# Altium footprint library 2.贴片器件封装.PcbLib: 28 footprints (part 1 of 2)
Each footprint in its own frame and in the unit in brackets; x right, y up, seen from the top. Pads: shape width x height; smd on the part's side, far side on the other; paste and mask are expansions set on the pad; w line width, h text height; cw(c..) or ccw(c..) is an arc to the next point about the centre after c.
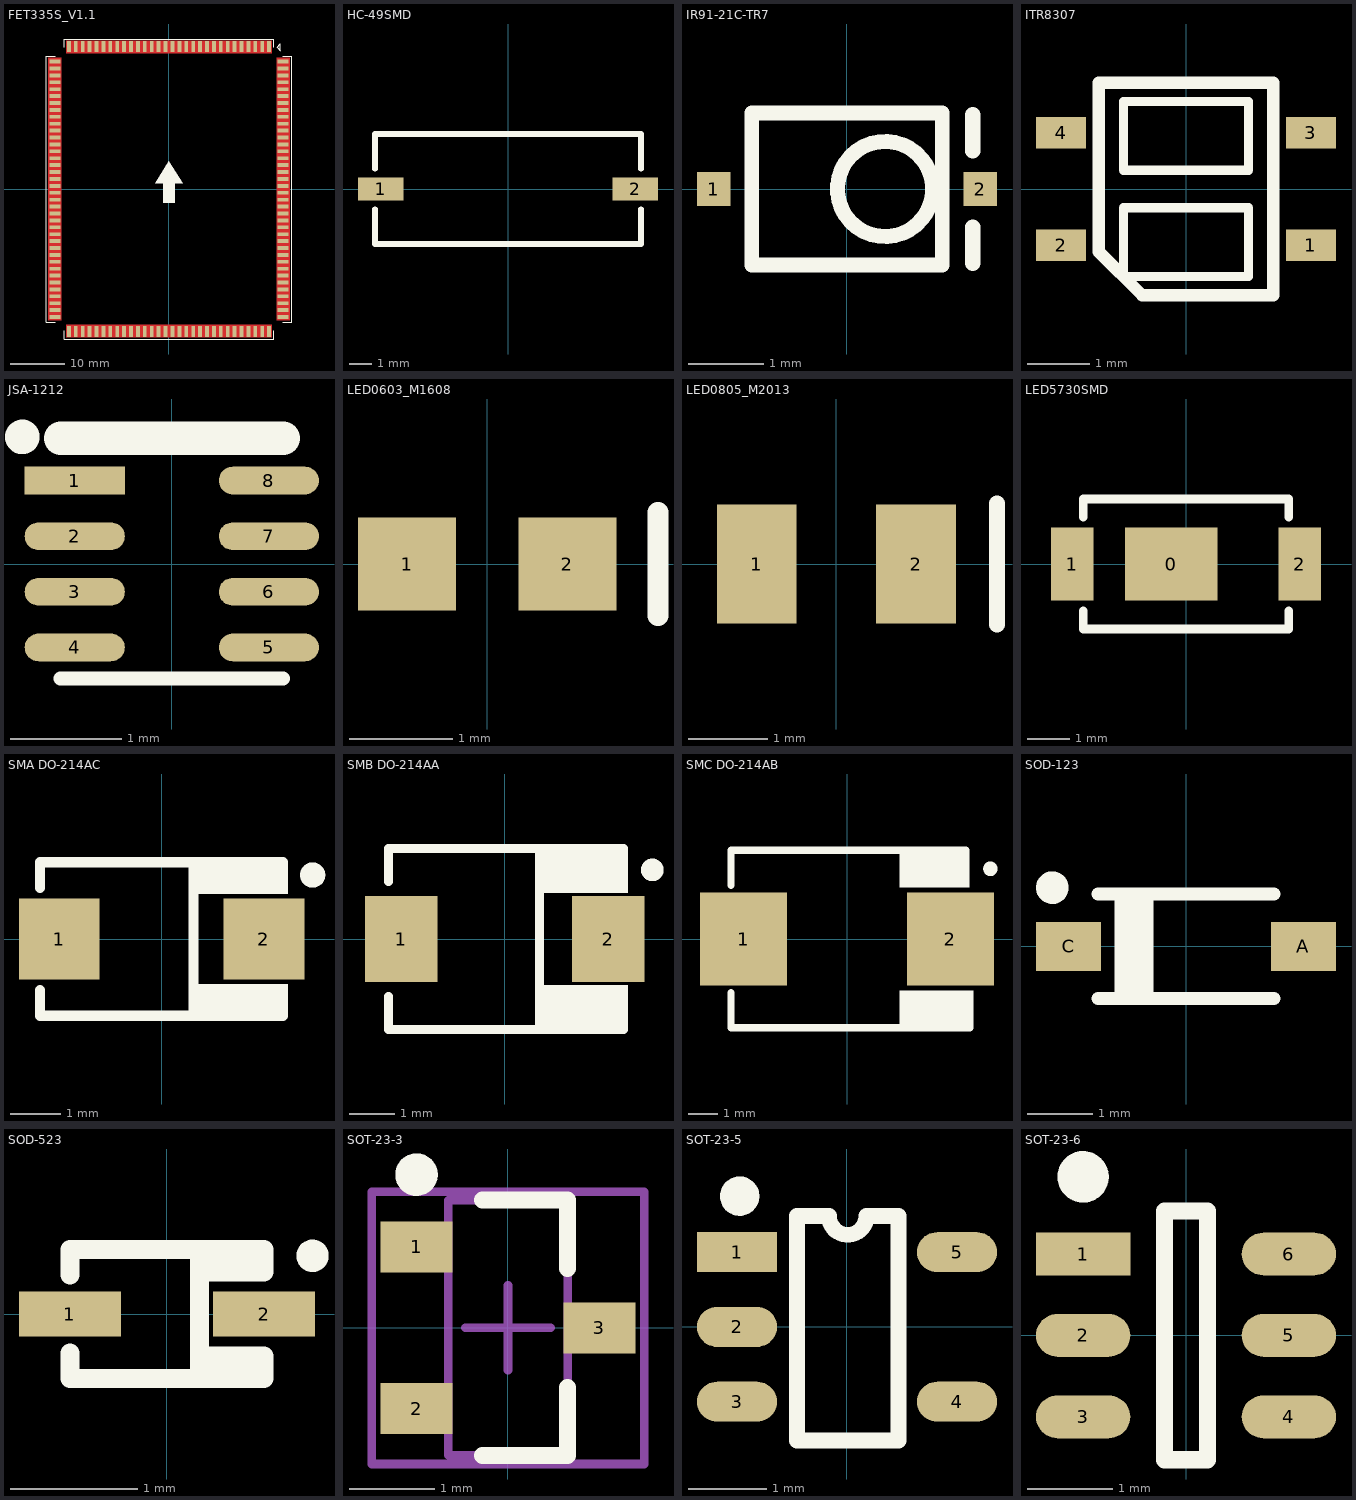
[diagram p0: the footprints below, top view; thin cyan lines are the x and y axes]

## FET335S_V1.1 [mm]
pads (136):
  rect 0.7x2 smd: 1(18.415,26.2) 2(17.145,26.2) 3(15.875,26.2) 4(14.605,26.2) 5(13.335,26.2) 6(12.065,26.2) 7(10.795,26.2) 8(9.525,26.2) 9(8.255,26.2) 10(6.985,26.2) 11(5.715,26.2) 12(4.445,26.2) 13(3.175,26.2) 14(1.905,26.2) 15(0.635,26.2) 16(-0.635,26.2) 17(-1.905,26.2) 18(-3.175,26.2) 19(-4.445,26.2) 20(-5.715,26.2) 21(-6.985,26.2) 22(-8.255,26.2) 23(-9.525,26.2) 24(-10.795,26.2) 25(-12.065,26.2) 26(-13.335,26.2) 27(-14.605,26.2) 28(-15.875,26.2) 29(-17.145,26.2) 30(-18.415,26.2) 69(-18.415,-26.2) 70(-17.145,-26.2) 71(-15.875,-26.2) 72(-14.605,-26.2) 73(-13.335,-26.2) 74(-12.065,-26.2) 75(-10.795,-26.2) 76(-9.525,-26.2) 77(-8.255,-26.2) 78(-6.985,-26.2) 79(-5.715,-26.2) 80(-4.445,-26.2) 81(-3.175,-26.2) 82(-1.905,-26.2) 83(-0.635,-26.2) 84(0.635,-26.2) 85(1.905,-26.2) 86(3.175,-26.2) 87(4.445,-26.2) 88(5.715,-26.2) 89(6.985,-26.2) 90(8.255,-26.2) 91(9.525,-26.2) 92(10.795,-26.2) 93(12.065,-26.2) 94(13.335,-26.2) 95(14.605,-26.2) 96(15.875,-26.2) 97(17.145,-26.2) 98(18.415,-26.2)
  rect 2x0.7 smd: 31(-21,23.44) 32(-21,22.17) 33(-21,20.9) 34(-21,19.63) 35(-21,18.36) 36(-21,17.09) 37(-21,15.82) 38(-21,14.55) 39(-21,13.28) 40(-21,12.01) 41(-21,10.74) 42(-21,9.47) 43(-21,8.2) 44(-21,6.93) 45(-21,5.66) 46(-21,4.39) 47(-21,3.12) 48(-21,1.85) 49(-21,0.58) 50(-21,-0.69) 51(-21,-1.96) 52(-21,-3.23) 53(-21,-4.5) 54(-21,-5.77) 55(-21,-7.04) 56(-21,-8.31) 57(-21,-9.58) 58(-21,-10.85) 59(-21,-12.12) 60(-21,-13.39) 61(-21,-14.66) 62(-21,-15.93) 63(-21,-17.2) 64(-21,-18.47) 65(-21,-19.74) 66(-21,-21.01) 67(-21,-22.28) 68(-21,-23.55) 99(21,-23.55) 100(21,-22.28) 101(21,-21.01) 102(21,-19.74) 103(21,-18.47) 104(21,-17.2) 105(21,-15.93) 106(21,-14.66) 107(21,-13.39) 108(21,-12.12) 109(21,-10.85) 110(21,-9.58) 111(21,-8.31) 112(21,-7.04) 113(21,-5.77) 114(21,-4.5) 115(21,-3.23) 116(21,-1.96) 117(21,-0.69) 118(21,0.58) 119(21,1.85) 120(21,3.12) 121(21,4.39) 122(21,5.66) 123(21,6.93) 124(21,8.2) 125(21,9.47) 126(21,10.74) 127(21,12.01) 128(21,13.28) 129(21,14.55) 130(21,15.82) 131(21,17.09) 132(21,18.36) 133(21,19.63) 134(21,20.9) 135(21,22.17) 136(21,23.44)
Top Layer:
  pour cut-out: -18.923,27.305 -18.923,25.019 18.923,25.019 18.923,27.305
  pour cut-out: -18.923,-25.019 -18.923,-27.305 18.923,-27.305 18.923,-25.019
  pour cut-out: 22.225,24.13 19.812,24.13 19.812,-24.13 22.225,-24.13
  pour cut-out: -22.225,24.13 -19.812,24.13 -19.812,-24.13 -22.225,-24.13
Top Overlay:
  region: -1.016,1.016 -1.016,-2.54 1.016,-2.54 1.016,1.016
  region: 0,5.08 -2.54,1.016 2.54,1.016
  lines w0.2: -20.933,-24.5 -22.6,-24.5 -22.6,24.4 -20.933,24.4 ; -19.3,-26.071 -19.3,-27.6 19.3,-27.6 19.3,-26.071 ; -19.3,26.071 -19.3,27.6 19.3,27.6 19.3,26.071 ; 19.9,26.071 20.5,25.471 20.5,26.7 19.9,26.1 ; 20.933,-24.5 22.6,-24.5 22.6,24.4 20.933,24.4

## HC-49SMD [mm]
pads (2):
  rect 2x1 smd: 1(-5.588,0) 2(5.588,0)
Top Overlay:
  lines w0.254: -5.842,-0.889 -5.842,-2.413 5.842,-2.413 5.842,-0.889 ; -5.842,0.889 -5.842,2.413 5.842,2.413 5.842,0.889

## IR91-21C-TR7 [mm]
height 0.65
pads (2):
  rect 0.45x0.45 smd: 1(-1.775,0) 2(1.775,0)
Top Overlay:
  circle w0.2: c0.508,0 r0.635
  lines w0.2: -1.27,-1.016 -1.27,1.016 1.27,1.016 1.27,-1.016 -1.27,-1.016
  lines w0.203: 1.676,-0.991 1.676,-0.508 ; 1.676,0.508 1.676,0.991

## ITR8307 [mm]
pads (4):
  rect 0.8x0.5 smd: 1(2,-0.9) 2(-2,-0.9) 3(2,0.9) 4(-2,0.9)
Top Overlay:
  lines w0.15: -1,-1.4 -1,-0.3 1,-0.3 1,-1.4 -1,-1.4 ; -1,0.3 -1,1.4 1,1.4 1,0.3 -1,0.3
  lines w0.2: -1.4,-1 -0.7,-1.7 1.4,-1.7 1.4,1.7 -1.4,1.7 -1.4,-1

## JSA-1212 [mm]
pads (8):
  rect 0.9x0.25 smd: 1(-0.873,0.75)
  oval 0.9x0.25 smd: 2(-0.873,0.25) 3(-0.873,-0.25) 4(-0.873,-0.75) 5(0.873,-0.75) 6(0.873,-0.25) 7(0.873,0.25) 8(0.873,0.75)
Top Overlay:
  circle w0.25: c-1.344,1.143 r0.03
  lines w0.127: -1,-1.028 1,-1.028
  lines w0.3: -1,1.131 1,1.131

## LED0603_M1608 [mm] "Chip Capacitor, 2-Leads, Body 1.6x0.8mm, IPC Medium Density"
height 0.55
pads (2):
  rect 0.95x0.9 smd: 1(-0.775,0) 2(0.775,0)
Top Overlay:
  lines w0.2: 1.651,-0.5 1.651,0.5

## LED0805_M2013 [mm]
pads (2):
  rect 1x1.5 smd: 1(-1,0) 2(1,0)
Top Overlay:
  lines w0.2: 2.016,-0.762 2.016,0.762

## LED5730SMD [mm]
pads (3):
  rect 2.17x1.7 smd: 0(-0.345,0)
  rect 1x1.7 smd: 1(-2.667,0) 2(2.667,0)
Top Overlay:
  lines w0.2: -2.413,-1.092 -2.413,-1.524 2.413,-1.524 2.413,-1.092 ; -2.413,1.092 -2.413,1.524 2.413,1.524 2.413,1.092

## SMA DO-214AC [mm]
height 3.94
pads (2):
  rect 1.6x1.6 smd: 1(-2.032,0) 2(2.032,0)
Top Overlay:
  circle w0.25: c2.999,1.27 r0.125
  rectangle: 0.635,-1.524 2.513,-0.889
  rectangle: 0.635,0.889 2.513,1.524
  lines w0.2: -2.413,-1.016 -2.413,-1.524 2.413,-1.524 2.413,-1.016 ; -2.413,1.016 -2.413,1.524 2.413,1.524 2.413,1.016 ; 0.635,-1.524 0.635,1.524

## SMB DO-214AA [mm]
height 3.94
pads (2):
  rect 1.6x1.9 smd: 1(-2.286,0) 2(2.286,0)
Top Overlay:
  circle w0.25: c3.253,1.524 r0.125
  region: 2.718,-1.016 0.762,-1.016 0.762,-2 2.718,-2
  region: 2.718,2 0.762,2 0.762,1.016 2.718,1.016
  lines w0.2: -2.565,-1.27 -2.565,-2 2.616,-2 ; -2.565,1.27 -2.565,2 2.616,2 ; 0.762,-2 0.762,2
Mechanical 13:
  lines w0.1: -2.35,-1.97 2.35,-1.97 ; -2.35,1.97 2.35,1.97

## SMC DO-214AB [mm]
pads (2):
  rect 3x3.2 smd: 1(-3.556,0) 2(3.556,0)
Top Overlay:
  circle w0.25: c4.93,2.413 r0.125
  rectangle: 1.803,-3.048 4.343,-1.778
  rectangle: 1.803,1.778 4.216,3.048
  lines w0.254: -3.988,-1.854 -3.988,-3.048 4.216,-3.048 4.216,-2.032 ; -3.988,1.854 -3.988,3.048 4.089,3.048 4.089,1.905

## SOD-123 [mm]
pads (2):
  rect 1x0.75 smd: A(1.8,0) C(-1.8,0)
Top Overlay:
  circle w0.25: c-2.05,0.9 r0.125
  lines w0.2: -1.35,-0.8 1.35,-0.8 ; -1.35,0.8 1.35,0.8 ; -1,-0.8 -1,0.8 ; -0.8,-0.8 -0.8,0.8 ; -0.6,-0.8 -0.6,0.8

## SOD-523 [mm]
pads (2):
  rect 0.8x0.35 smd: 1(-0.762,0) 2(0.762,0)
Top Overlay:
  circle w0.152: c1.143,0.457 r0.051
  rectangle: 0.255,-0.508 0.763,-0.254
  rectangle: 0.255,0.254 0.763,0.508
  lines w0.15: -0.762,-0.305 -0.762,-0.508 0.762,-0.508 0.762,-0.33 ; -0.762,0.305 -0.762,0.508 0.762,0.508 0.762,0.33 ; 0.254,-0.508 0.254,0.508

## SOT-23-3 [mm] "SOT23, 3-Leads, Body 2.9x1.3mm, Pitch 0.95mm, Lead Span 2.5mm, IPC High Density"
height 1.1
pads (3):
  rect 0.85x0.6 smd: 1(-1.075,0.95) 2(-1.075,-0.95) 3(1.075,0)
Top Overlay:
  circle w0.25: c-1.075,1.8 r0.125
  lines w0.2: -0.3,-1.5 0.7,-1.5 0.7,-0.7 ; -0.3,1.5 0.7,1.5 0.7,0.7
Mechanical 13:
  lines w0.1: -0.7,-1.5 0.7,-1.5 0.7,1.5 -0.7,1.5 -0.7,-1.5
Mechanical 15:
  lines w0.1: -0.5,0 0.5,0 ; 0,-0.5 0,0.5 ; -1.6,-1.6 1.6,-1.6 1.6,1.6 -1.6,1.6 -1.6,-1.6
3D body: height 1.1, standoff 0, extent -0.7,-1.5 0.7,1.5

## SOT-23-5 [mil] "SOT23, 5-Leads, Body 3.1x3.0mm (max), Pitch 0.95mm, IPC Medium Density"
height 43.31
pads (5):
  rect 40x20 smd: 1(-55,37.4)
  oval 40x20 smd: 2(-55,0) 3(-55,-37.4) 4(55,-37.4) 5(55,37.4)
Top Overlay:
  circle w9.84: c-53.66,65.4 r4.92
  lines w7.87: -25,55.4 -25,-56.8 25.7,-56.8 25.7,55.4 ; -9,55.4 ccw(c0.35,55.4) 9.7,55.4
  lines w8: -25,55.4 -9,55.4 ; 9.7,55.4 25.7,55.4

## SOT-23-6 [mm]
height 1.45
pads (6):
  rect 1.1x0.5 smd: 1(-1.2,0.95)
  oval 1.1x0.5 smd: 2(-1.2,0) 3(-1.2,-0.95) 4(1.2,-0.95) 5(1.2,0) 6(1.2,0.95)
Top Overlay:
  circle w0.3: c-1.2,1.85 r0.15
  lines w0.2: -0.25,-1.45 -0.25,1.45 0.25,1.45 0.25,-1.45 -0.25,-1.45